# EAGLE library part EPSONCART (library Stofer)
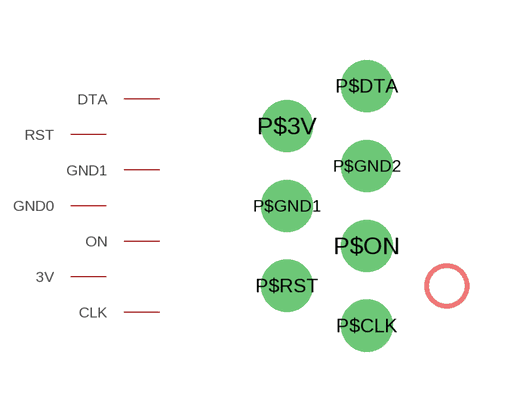
[diagram p1: symbol with the pads of EPSONPIN; footprint EPSONPIN]

Designator prefix -

## EPSONCART  [EPSONPIN]
P$3V  3V
P$CLK  CLK
P$DTA  DTA
P$GND1  GND0
P$GND2  GND1
P$ON  ON
P$RST  RST

## Footprint EPSONPIN (pad centres in mm)
drill 0.8 round: P$3V -2,5; P$CLK 0,0; P$DTA 0,6; P$GND1 -2,3; P$GND2 0,4; P$ON 0,2; P$RST -2,1